# EAGLE library part SN75HVD08DR (library FSAE Electric)
RS485 Transceiver View on DigiKey <http://www.digikey.com/product-detail/en/SN75HVD08DR/296-37893-1-ND/4899996>
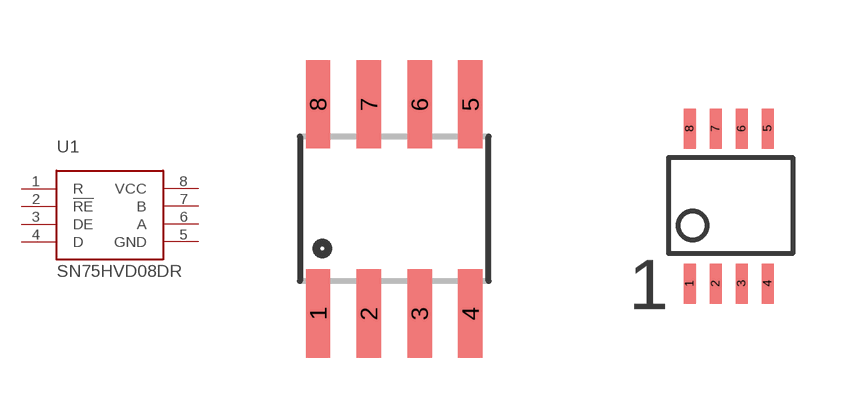
[diagram p40: symbol with the pads of SO-8; footprints SO-8, MSOP-8]

Designator prefix U1

## SN75HVD08DRSOIC (PARTNO: SN75HVD08DR)  [SO-8]
1  R
2  !RE
3  DE
4  D
5  GND
6  A
7  B
8  VCC

## SN75HVD08DRMSOP (PARTNO: ISL83072EIUZA-T)  [MSOP-8]
Pads as for SO-8

## Footprint SO-8 (pad centres in mm)
smd 0.61 x 2.21: 1 -1.905,-2.616; 2 -0.635,-2.616; 3 0.635,-2.616; 4 1.905,-2.616; 5 1.905,2.616; 6 0.635,2.616; 7 -0.635,2.616; 8 -1.905,2.616

## Footprint MSOP-8 (pad centres in mm)
smd 0.3 x 1: 1 -0.975,-1.95; 2 -0.325,-1.95; 3 0.325,-1.95; 4 0.975,-1.95; 5 0.975,1.925; 6 0.325,1.925; 7 -0.325,1.925; 8 -0.975,1.925